# EAGLE library part ADM1069 (library NewSDR)
Analog Devices Super Sequencer with Margining Control - 8 Inputs, 8 Outputs, 4 DACs
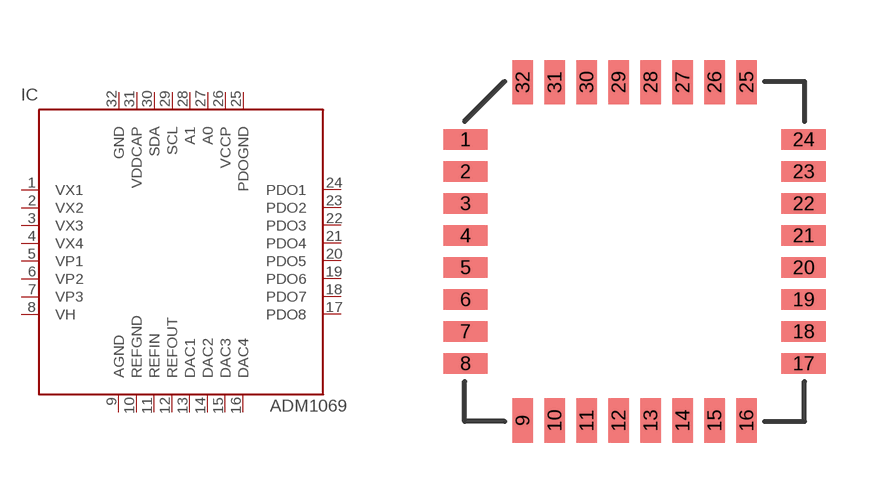
[diagram p152: symbol with the pads of LQFP-32; footprint LQFP-32]

Designator prefix IC

## ADM1069  [LQFP-32]
1  VX1  in
2  VX2  in
3  VX3  in
4  VX4  in
5  VP1  in
6  VP2  in
7  VP3  in
8  VH  in
9  AGND  pwr
10  REFGND  pwr
11  REFIN  pwr
12  REFOUT  pwr
13  DAC1
14  DAC2
15  DAC3
16  DAC4
17  PDO8  out
18  PDO7  out
19  PDO6  out
20  PDO5  out
21  PDO4  out
22  PDO3  out
23  PDO2  out
24  PDO1  out
25  PDOGND  pwr
26  VCCP  pwr
27  A0  in
28  A1  in
29  SCL
30  SDA
31  VDDCAP
32  GND  pwr

## Footprint LQFP-32 (pad centres in mm)
smd 1.11 x 0.51: 1 -4.23,2.8; 2 -4.23,2; 3 -4.23,1.2; 4 -4.23,0.4; 5 -4.23,-0.4; 6 -4.23,-1.2; 7 -4.23,-2; 8 -4.23,-2.8; 17 4.23,-2.8; 18 4.23,-2; 19 4.23,-1.2; 20 4.23,-0.4; 21 4.23,0.4; 22 4.23,1.2; 23 4.23,2; 24 4.23,2.8
smd 0.51 x 1.11: 9 -2.8,-4.23; 10 -2,-4.23; 11 -1.2,-4.23; 12 -0.4,-4.23; 13 0.4,-4.23; 14 1.2,-4.23; 15 2,-4.23; 16 2.8,-4.23; 25 2.8,4.23; 26 2,4.23; 27 1.2,4.23; 28 0.4,4.23; 29 -0.4,4.23; 30 -1.2,4.23; 31 -2,4.23; 32 -2.8,4.23